# Altium footprint library INDC250X200X100L55N.PcbLib: 2 footprints
Each footprint in its own frame and in the unit in brackets; x right, y up, seen from the top. Pads: shape width x height; smd on the part's side, far side on the other; paste and mask are expansions set on the pad; w line width, h text height; cw(c..) or ccw(c..) is an arc to the next point about the centre after c.
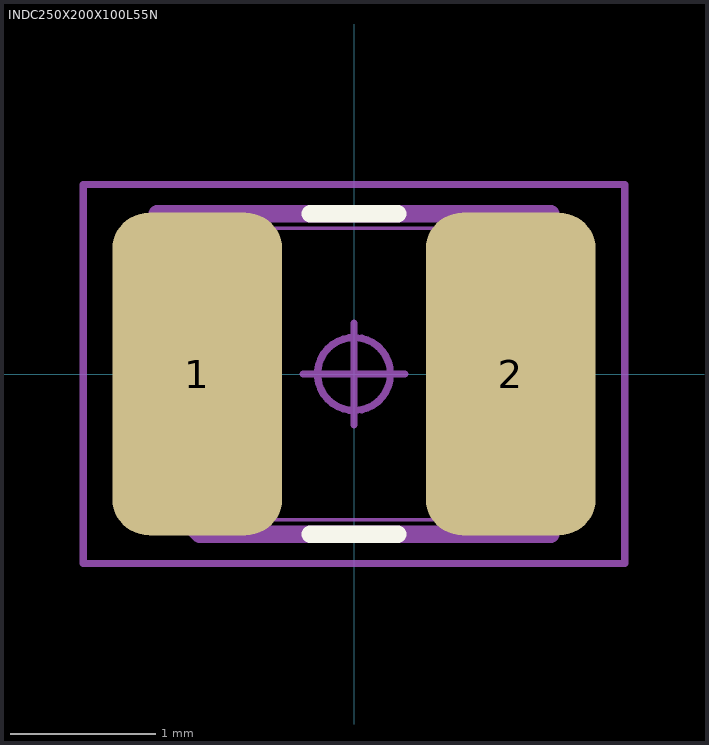
[diagram p0: the footprints below, top view; thin cyan lines are the x and y axes]

## INDC250X200X100L55N [mm] "Inductor, Chip; 2.50 mm L X 2.00 mm W X 1.00 mm H Body"
height 1
pads (2):
  rrect43% 1.165x2.215 smd: 1(-1.075,0) 2(1.075,0)
Top Overlay:
  lines w0.12: -0.3,-1.1 0.3,-1.1 ; -0.3,1.1 0.3,1.1
Mechanical 3:
  lines w0.12: -1.35,-0.809 -1.35,1.1 1.35,1.1 1.35,-1.1 -1.059,-1.1 -1.35,-0.809
Mechanical 5:
  lines w0.025: -1.25,-1 -0.7,-1 -0.7,1 -1.25,1 ; -1.25,-1 -1.25,1 ; -1.25,-1 -1.25,1 ; -1.25,-1 1.25,-1 ; -1.25,1 1.25,1 ; 1.25,-1 1.25,1 ; 1.25,-1 0.7,-1 0.7,1 1.25,1 ; 1.25,-1 1.25,1
Mechanical 7:
  circle w0.05: c0,0 r0.25
  lines w0.05: -0.35,0 0.35,0 ; 0,-0.35 0,0.35 ; -1.857,-1.3 -1.857,1.3 1.857,1.3 1.857,-1.3 -1.857,-1.3
Mechanical 9:
  text "'.Designator'" at -5.69,-0.271 h1.02
3D body "INDC250X200X100L55.STEP": height 1, standoff 0, extent -1.25,-1 1.25,1
3D body: height 23.4, standoff 0, extent -1.857,-1.3 1.857,1.3

## PCBComponent_1 [mm]